# EAGLE library part LTC3633 (library NA-2025)
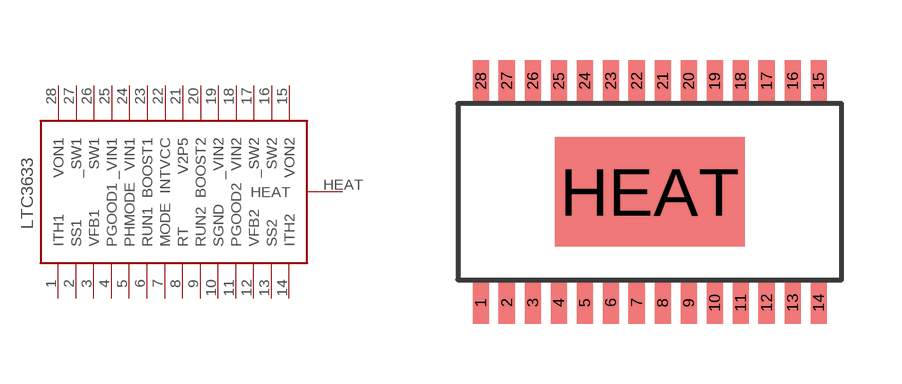
[diagram p7: symbol with the pads of TSSOP28+HEAT_S; footprint TSSOP28+HEAT_S]

Designator prefix -

## LTC3633  [TSSOP28+HEAT_S]
1  ITH1
2  SS1
3  VFB1
4  PGOOD1
5  PHMODE
6  RUN1
7  MODE
8  RT
9  RUN2
10  SGND
11  PGOOD2
12  VFB2
13  SS2
14  ITH2
15  VON2
16  SW2
17  _SW2
18  VIN2
19  _VIN2
20  BOOST2
21  V2P5
22  INTVCC
23  BOOST1
24  VIN1
25  _VIN1
26  SW1
27  _SW1
28  VON1
HEAT  HEAT

## Footprint TSSOP28+HEAT_S (pad centres in mm)
smd 0.4 x 1.05: 1 -4.225,-2.775; 2 -3.575,-2.775; 3 -2.925,-2.775; 4 -2.275,-2.775; 5 -1.625,-2.775; 6 -0.975,-2.775; 7 -0.325,-2.775; 8 0.325,-2.775; 9 0.975,-2.775; 10 1.625,-2.775; 11 2.275,-2.775; 12 2.925,-2.775; 13 3.575,-2.775; 14 4.225,-2.775; 15 4.225,2.775; 16 3.575,2.775; 17 2.925,2.775; 18 2.275,2.775; 19 1.625,2.775; 20 0.975,2.775; 21 0.325,2.775; 22 -0.325,2.775; 23 -0.975,2.775; 24 -1.625,2.775; 25 -2.275,2.775; 26 -2.925,2.775; 27 -3.575,2.775; 28 -4.225,2.775
smd 4.75 x 2.74: HEAT 0,0